# EAGLE library part MPU9255 (library diy-modules)
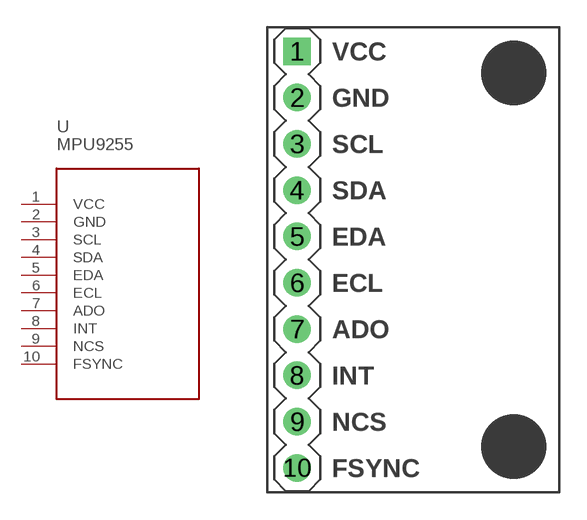
[diagram p67: symbol with the pads of MPU9255; footprint MPU9255]

Designator prefix -

## MPU9255  [MPU9255]
1  VCC  pwr
2  GND  pwr
3  SCL
4  SDA
5  EDA
6  ECL
7  ADO
8  INT
9  NCS
10  FSYNC

## Footprint MPU9255 (pad centres in mm)
drill 1 square: 1 -8.001,10.16
drill 1: 2 -8.001,7.62; 3 -8.001,5.08; 4 -8.001,2.54; 5 -8.001,0; 6 -8.001,-2.54; 7 -8.001,-5.08; 8 -8.001,-7.62; 9 -8.001,-10.16; 10 -8.001,-12.7